# Altium schematic symbol library ANT_PCB_MFRC522_13.56MHZ.Schlib: 1 symbol
Pins are listed as number, name and electrical type; pins without a type are passive.

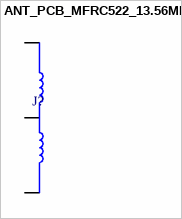
[diagram p0: symbol ANT_PCB_MFRC522_13.56MHZ]

## ANT_PCB_MFRC522_13.56MHZ
designator J?  (value not drawn)  (no BOM)
pins: 1, 2, 3